# Altium schematic symbol library ADuC.SchLib: 1 symbol
Pins are listed as number, name and electrical type; pins without a type are passive.

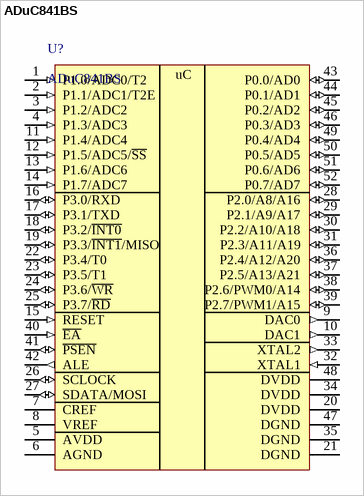
[diagram p0: symbol ADuC841BS]

## ADuC841BS
designator U?
20 MIPS 8052 core, 420 kSPS 12-bit ADC,  62 kBytes on-chip Flash, 4 kBytes data Flash, 2304 bytes data RAM, DAC, PWM, SPI, I2C; Name: ADuC841
footprint QFP65P1390X1390X245-52N (QFP, 52-Leads, Body 14.1x14.1mm (max), Pitch 0.65mm, IPC Medium Density)
pins: 1 P1.0/ADC0/T2 (in), 2 P1.1/ADC1/T2E (in), 3 P1.2/ADC2 (in), 4 P1.3/ADC3 (in), 5 AVDD (power), 6 AGND (power), 7 CREF, 8 VREF, 9 DAC0 (out), 10 DAC1 (out), 11 P1.4/ADC4 (in), 12 P1.5/ADC5/~{SS} (in), 13 P1.6/ADC6 (in), 14 P1.7/ADC7 (in), 15 RESET (in), 16 P3.0/RXD (io), 17 P3.1/TXD (io), 18 P3.2/~{INT0} (io), 19 P3.3/~{INT1}/MISO (io), 20 DVDD (power), 21 DGND (power), 22 P3.4/T0 (io), 23 P3.5/T1 (io), 24 P3.6/~{WR} (io), 25 P3.7/~{RD} (io), 26 SCLOCK (io), 27 SDATA/MOSI (io), 28 P2.0/A8/A16 (io), 29 P2.1/A9/A17 (io), 30 P2.2/A10/A18 (io), 31 P2.3/A11/A19 (io), 32 XTAL1 (in), 33 XTAL2 (out), 34 DVDD (power), 35 DGND (power), 36 P2.4/A12/A20 (io), 37 P2.5/A13/A21 (io), 38 P2.6/PWM0/A14 (io), 39 P2.7/PWM1/A15 (io), 40 ~{EA} (in), 41 ~{PSEN} (io), 42 ALE (out), 43 P0.0/AD0 (io), 44 P0.1/AD1 (io), 45 P0.2/AD2 (io), 46 P0.3/AD3 (io), 47 DGND (power), 48 DVDD (power), 49 P0.4/AD4 (io), 50 P0.5/AD5 (io), 51 P0.6/AD6 (io), 52 P0.7/AD7 (io)
text: uC